# Altium footprint library DRClib.PcbLib: 41 footprints (part 2 of 3)
Each footprint in its own frame and in the unit in brackets; x right, y up, seen from the top. Pads: shape width x height; smd on the part's side, far side on the other; paste and mask are expansions set on the pad; w line width, h text height; cw(c..) or ccw(c..) is an arc to the next point about the centre after c.
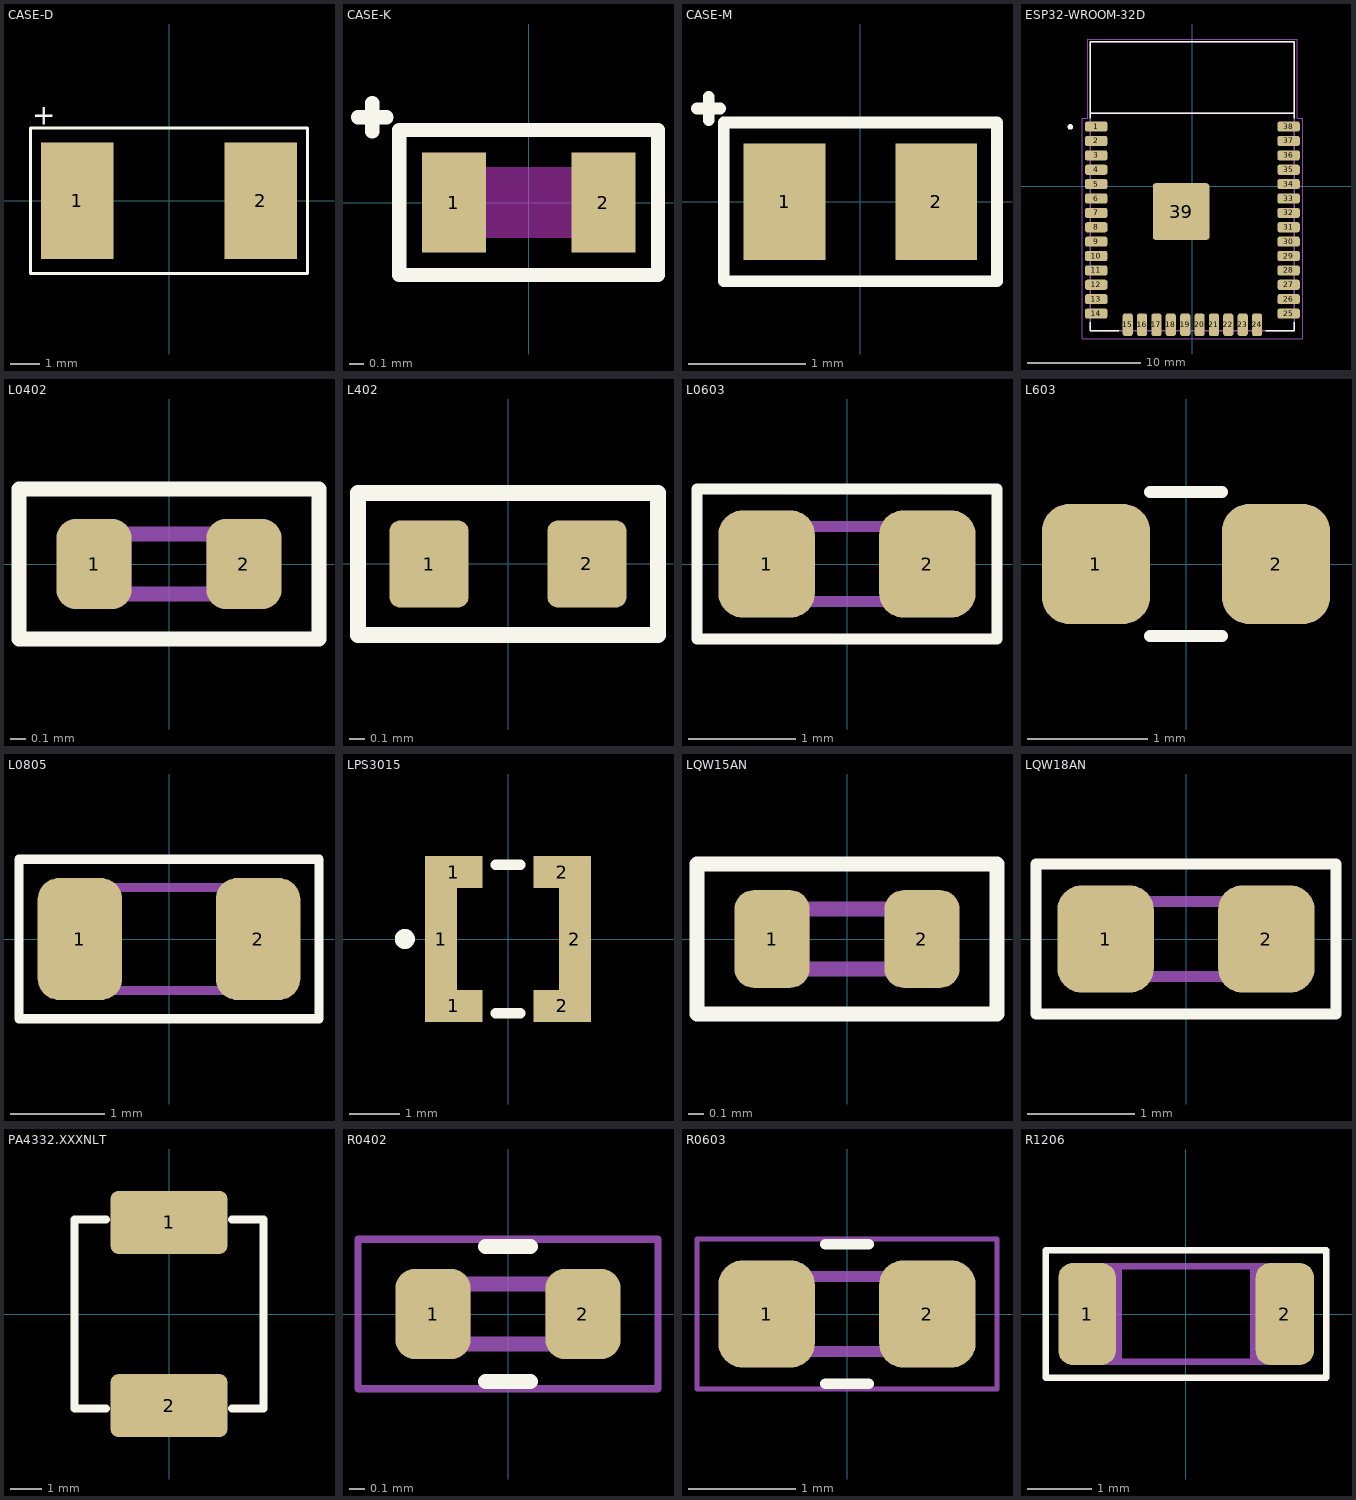
[diagram p1: the footprints below, top view; thin cyan lines are the x and y axes]

## CASE-D [mm] "Vishay Case D"
height 2.8
pads (2):
  rect 2.5x4 smd: 1(-3.15,0) 2(3.15,0)
Top Overlay:
  lines w0.1: -4.75,-2.5 4.75,-2.5 4.75,2.5 -4.75,2.5 -4.75,-2.5
  text "+" at -4.7,2.6 h0.7
3D body "293D D-CASE.stp": height 2.91, standoff -0.01, extent -3.594,-2.208 3.594,2.209

## CASE-K [mm]
height 0.6
pads (2):
  rect 0.45x0.7 smd: 1(-0.525,0) 2(0.525,0)
Top Overlay:
  lines w0.1: -1.2,0.6 -1,0.6 ; -1.1,0.5 -1.1,0.7 ; -0.91,-0.51 0.91,-0.51 0.91,0.51 -0.91,0.51 -0.91,-0.51
Keep-Out Layer:
  rectangle: -0.5,-0.25 0.5,0.25

## CASE-M [mm]
height 0.9
pads (2):
  rect 0.7x1 smd: 1(-0.65,0) 2(0.65,0)
Top Overlay:
  lines w0.1: -1.4,0.8 -1.2,0.8 ; -1.3,0.7 -1.3,0.9 ; -1.17,-0.68 1.17,-0.68 1.17,0.68 -1.17,0.68 -1.17,-0.68

## ESP32-WROOM-32D [mm]
pads (39):
  rrect50% 2x0.9 smd: 1(-8.5,5.26) 2(-8.5,3.99) 3(-8.5,2.72) 4(-8.5,1.45) 5(-8.5,0.18) 6(-8.5,-1.09) 7(-8.5,-2.36) 8(-8.5,-3.63) 9(-8.5,-4.9) 10(-8.5,-6.17) 11(-8.5,-7.44) 12(-8.5,-8.71) 13(-8.5,-9.98) 14(-8.5,-11.25) 25(8.5,-11.25) 26(8.5,-9.98) 27(8.5,-8.71) 28(8.5,-7.44) 29(8.5,-6.17) 30(8.5,-4.9) 31(8.5,-3.63) 32(8.5,-2.36) 33(8.5,-1.09) 34(8.5,0.18) 35(8.5,1.45) 36(8.5,2.72) 37(8.5,3.99) 38(8.5,5.26)
  rrect50% 0.9x2 smd: 15(-5.715,-12.25) 16(-4.445,-12.25) 17(-3.175,-12.25) 18(-1.905,-12.25) 19(-0.635,-12.25) 20(0.635,-12.25) 21(1.905,-12.25) 22(3.175,-12.25) 23(4.445,-12.25) 24(5.715,-12.25)
  rrect10% 5x5 smd: 39(-1,-2.24)
Top Overlay:
  circle w0.3: c-10.777,5.238 r0.1
  lines w0.127: -9,-12 -9,-12.75 -6.5,-12.75 ; -9,6 -9,12.75 9,12.75 9,6 ; -8.96,6.45 8.96,6.45 ; 6.5,-12.75 9,-12.75 9,-12
Top Paste:
  region: -2.584,-0.659 0.581,-0.659 0.581,-3.825 -2.584,-3.825
Mechanical 4:
  circle w0.3: c-8.277,5.238 r0.1
  circle w0.3: c-8.277,5.238 r0.1
  lines w0.127: -9,-12.75 -9,12.75 ; -9,-12.75 9,-12.75 ; -9,-12.75 -9,12.75 ; -9,-12.75 9,-12.75 ; -9,12.75 9,12.75 ; -9,12.75 9,12.75 ; 9,-12.75 9,12.75 ; 9,-12.75 9,12.75 ; -8.96,6.45 8.96,6.45 -8.96,6.45
  text "ANTENNA" at -5.725,8.401 h1.88
  text "ANTENNA" at -5.725,8.401 h1.88
Mechanical 16:
  lines w0.05: -9.75,-13.5 -9.75,6 -9.25,6 -9.25,13 9.25,13 9.25,6 9.75,6 9.75,-13.5 -9.75,-13.5

## L0402 [mm]
pads (2):
  rrect50% 0.5x0.6 smd: 1(-0.5,0) 2(0.5,0)
Top Overlay:
  lines w0.1: -1,-0.5 -1,0.5 1,0.5 1,-0.5 -1,-0.5
Mechanical 13:
  region: 0.5,0.25 0.25,0.25 0.25,-0.25 0.5,-0.25
  rectangle: -0.25,0.15 0.25,0.25
  rectangle: -0.5,-0.25 -0.25,0.25
  rectangle: -0.25,-0.25 0.25,-0.15
Mechanical 15:
  lines w0.05: -1,-0.5 -1,0.5 1,0.5 1,-0.5 -1,-0.5
3D body "User Library-Chip Inductor.step": height 0.5, standoff 0, extent -0.5,-0.3 0.5,0.3

## L402 [mm] "Chip Inductor, 2-Leads, Body 1.0x0.5mm, IPC Medium Density"
height 0.6
pads (2):
  rrect25% 0.5x0.55 smd: 1(-0.5,0) 2(0.5,0)
Top Overlay:
  lines w0.1: -0.95,-0.45 -0.95,0.45 0.95,0.45 0.95,-0.45 -0.95,-0.45
3D body: height 0.23, standoff 0.03, extent -0.25,-0.25 0.25,0.25
3D body: height 0.25, standoff 0, extent 0.25,-0.25 0.5,0.25
3D body: height 0.25, standoff 0, extent -0.5,-0.25 -0.25,0.25
3D body: height 0.25, standoff 0.23, extent -0.225,-0.225 0.225,0.225

## L0603 [mm]
pads (2):
  rrect50% 0.9x1 smd: 1(-0.75,0) 2(0.75,0)
Top Overlay:
  lines w0.1: -1.4,-0.7 1.4,-0.7 1.4,0.7 -1.4,0.7 -1.4,-0.7
Mechanical 13:
  rectangle: -0.8,-0.4 -0.5,0.4
  rectangle: 0.5,-0.4 0.8,0.4
  rectangle: -0.5,-0.4 0.5,-0.3
  rectangle: -0.5,0.3 0.5,0.4
Mechanical 15:
  lines w0.05: -1.4,-0.7 -1.4,0.7 1.4,0.7 1.4,-0.7 -1.4,-0.7
3D body "User Library-Chip Inductor (1).step": height 0.8, standoff 0, extent -0.8,-0.475 0.8,0.475

## L603 [mm]
pads (2):
  rrect50% 0.9x1 smd: 1(-0.75,0) 2(0.75,0)
Top Overlay:
  lines w0.1: -0.3,-0.6 0.3,-0.6 ; -0.3,0.6 0.3,0.6

## L0805 [mm]
pads (2):
  rrect50% 0.9x1.3 smd: 1(-0.95,0) 2(0.95,0)
Top Overlay:
  lines w0.1: -1.6,-0.85 -1.6,0.85 1.6,0.85 1.6,-0.85 -1.6,-0.85
Mechanical 13:
  rectangle: -0.6,0.5 0.6,0.6
  rectangle: -0.6,-0.6 0.6,-0.5
  rectangle: 0.6,-0.6 1,0.6
  rectangle: -1,-0.6 -0.6,0.6
Mechanical 15:
  lines w0.05: -1.6,-0.85 1.6,-0.85 1.6,0.85 -1.6,0.85 -1.6,-0.85
3D body "User Library-User Library-Chip InductorINDC2012X130N.step": height 1.2, standoff 0, extent -0.975,-0.65 1.025,0.65

## LPS3015 [mm] "LPS3015 CoilCraft Low Profile  Shielded Power Inductor"
height 1.4
pads (6):
  rect 0.64x3.3 smd: 1(-1.33,0) 2(1.33,0)
  rect 1.14x0.64 smd: 1(-1.08,-1.33) 1(-1.08,1.33) 2(1.08,-1.33) 2(1.08,1.33)
Top Overlay:
  circle w0.2: c-2.05,0 r0.1
  lines w0.2: -0.25,-1.475 0.25,-1.475 ; -0.25,1.475 0.25,1.475
3D body: height 1.1, standoff 0, extent -1.475,-1.475 1.475,1.475
3D body: height 1.11, standoff 0, extent -1.4,-1.4 1.4,1.4
3D body: height 1.12, standoff 1.11, extent -1.15,-0.2 -0.752,0.199

## LQW15AN [mm]
pads (2):
  rrect50% 0.5x0.65 smd: 1(-0.5,0) 2(0.5,0)
Top Overlay:
  lines w0.1: -1,-0.5 -1,0.5 1,0.5 1,-0.5 -1,-0.5
Mechanical 13:
  region: 0.5,0.25 0.25,0.25 0.25,-0.25 0.5,-0.25
  rectangle: -0.25,0.15 0.25,0.25
  rectangle: -0.5,-0.25 -0.25,0.25
  rectangle: -0.25,-0.25 0.25,-0.15
Mechanical 15:
  lines w0.05: -1,-0.5 -1,0.5 1,0.5 1,-0.5 -1,-0.5
3D body "LQW15AN_W06.stp": height 0.5, standoff 0, extent -0.5,-0.296 0.5,0.296

## LQW18AN [mm]
pads (2):
  rrect50% 0.9x1 smd: 1(-0.75,0) 2(0.75,0)
Top Overlay:
  lines w0.1: -1.4,-0.7 -1.4,0.7 1.4,0.7 1.4,-0.7 -1.4,-0.7
Mechanical 13:
  rectangle: -0.5,0.3 0.5,0.4
  rectangle: -0.5,-0.4 0.5,-0.3
  rectangle: 0.5,-0.4 0.8,0.4
  rectangle: -0.8,-0.4 -0.5,0.4
Mechanical 15:
  lines w0.05: -1.4,-0.7 1.4,-0.7 1.4,0.7 -1.4,0.7 -1.4,-0.7
3D body "LQW18AN.stp": height 0.8, standoff 0, extent -0.8,-0.4 0.8,0.4

## PA4332.XXXNLT [mm] "Pulse - Fixed Inductor - 4.2x4.2"
pads (2):
  rrect25% 3.7x2 smd: 1(0,2.9) 2(0,-2.9)
Top Overlay:
  lines w0.254: -2,-3 -3,-3 -3,3 -2,3 ; 2,-3 3,-3 3,3 2,3
3D body: height 0.25, standoff 0, extent -3,3 -3,3
3D body: height 2, standoff 0, extent -3,-3 3,3

## R0402 [mm]
pads (2):
  rrect50% 0.5x0.6 smd: 1(-0.5,0) 2(0.5,0)
Top Overlay:
  lines w0.1: -0.15,-0.45 0.15,-0.45 ; -0.15,0.45 0.15,0.45
Mechanical 13:
  rectangle: -0.25,-0.25 0.25,-0.15
  rectangle: -0.5,-0.25 -0.25,0.25
  rectangle: -0.25,0.15 0.25,0.25
  region: 0.5,0.25 0.25,0.25 0.25,-0.25 0.5,-0.25
Mechanical 15:
  lines w0.05: -1,-0.5 1,-0.5 1,0.5 -1,0.5 -1,-0.5
  text ".Designator" at -0.8,-0.1 h0.5
3D body "RES0402.stp": height 0.3, standoff 0, extent -0.5,-0.25 0.5,0.25

## R0603 [mm]
height 0.7
pads (2):
  rrect50% 0.9x1 smd: 1(-0.75,0) 2(0.75,0)
Top Overlay:
  lines w0.1: -0.2,-0.65 0.2,-0.65 ; -0.2,0.65 0.2,0.65
Mechanical 13:
  rectangle: -0.8,-0.4 -0.5,0.4
  rectangle: 0.5,-0.4 0.8,0.4
  rectangle: -0.5,-0.4 0.5,-0.3
  rectangle: -0.5,0.3 0.5,0.4
Mechanical 15:
  lines w0.05: -1.4,-0.7 -1.4,0.7 1.4,0.7 1.4,-0.7 -1.4,-0.7
  text ".Designator" at -1.1,-0.1 h0.5
3D body "RES0603.stp": height 0.45, standoff 0, extent -0.8,-0.4 0.8,0.4

## R1206 [mm]
pads (2):
  rrect50% 0.9x1.6 smd: 1(-1.55,0)
  rrect50% 0.914x1.6 smd: 2(1.55,0)
Top Overlay:
  lines w0.1: -2.2,-1 2.2,-1 2.2,1 -2.2,1 -2.2,-1
Mechanical 13:
  region: 1.6,0.8 1,0.8 1,-0.8 1.6,-0.8
  rectangle: -1.6,-0.8 -1,0.8
  rectangle: -1,0.7 1,0.8
  region: 1,-0.7 -1,-0.7 -1,-0.8 1,-0.8
Mechanical 15:
  lines w0.05: -2.2,-1 2.2,-1 2.2,1 -2.2,1 -2.2,-1
  text ".Designator" at -1.9,-0.2 h1
3D body "User Library-R1206.step": height 0.47, standoff 0, extent -1.55,-0.776 1.55,0.776